# Altium footprint library PcbLib1.PcbLib: 98 footprints (part 2 of 7)
Each footprint in its own frame and in the unit in brackets; x right, y up, seen from the top. Pads: shape width x height; smd on the part's side, far side on the other; paste and mask are expansions set on the pad; w line width, h text height; cw(c..) or ccw(c..) is an arc to the next point about the centre after c.
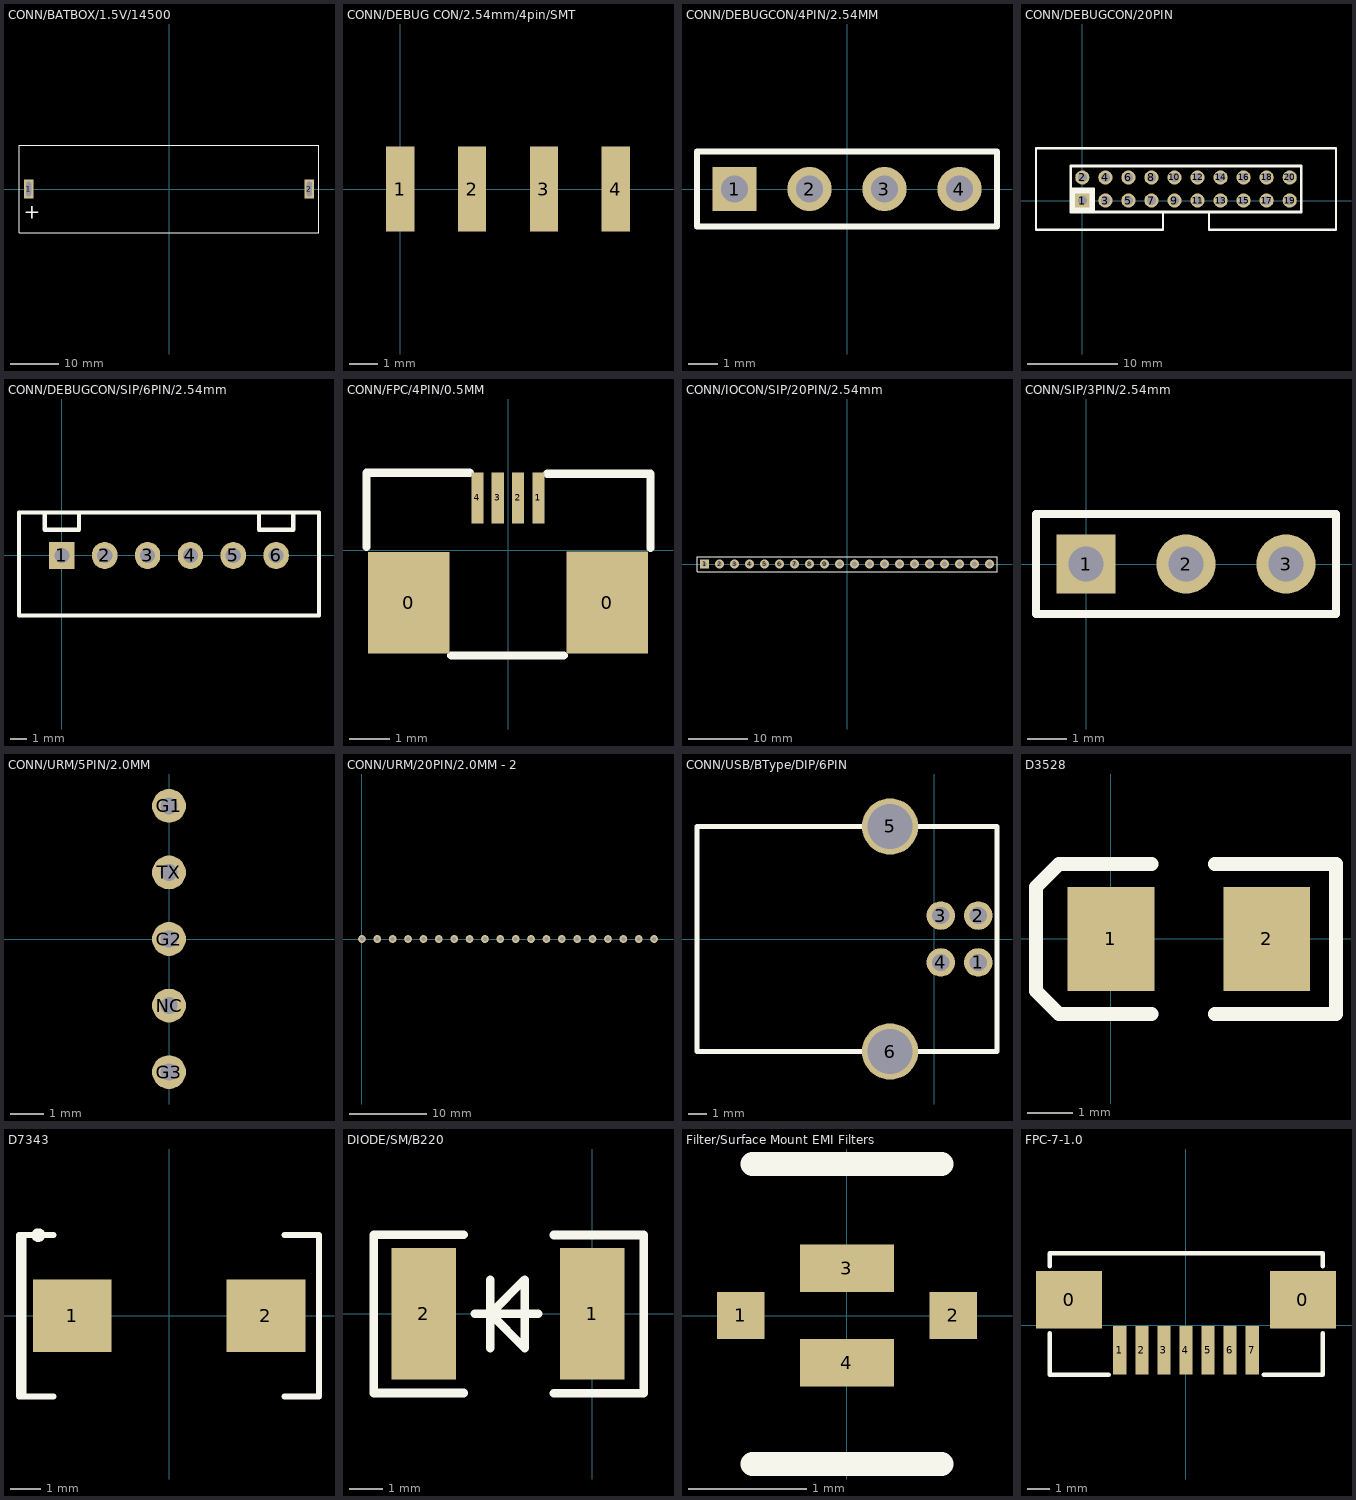
[diagram p1: the footprints below, top view; thin cyan lines are the x and y axes]

## CONN/BATBOX/1.5V/14500 [mm]
pads (2):
  rect 2x4 hole 1 slot 3 at 90 deg: 1(-29,0) 2(29,0)
Top Overlay:
  lines w0.254: -31,-9 -31,0 -31,9 31,9 31,-9 -31,-9
  text "+" at -29.991,-6.121 h3

## CONN/DEBUG CON/2.54mm/4pin/SMT [mm]
pads (4):
  rect 1x3 smd paste+0 mask+0.1: 1(0,0) 2(2.54,0) 3(5.08,0) 4(7.62,0)

## CONN/DEBUGCON/4PIN/2.54MM [mm]
pads (4):
  rect 1.5x1.5 hole 0.9: 1(-3.81,0)
  round 1.5 hole 0.9: 2(-1.27,0) 3(1.27,0) 4(3.81,0)
Top Overlay:
  lines w0.2: -5.08,-1.27 5.08,-1.27 5.08,1.27 -5.08,1.27 -5.08,-1.27

## CONN/DEBUGCON/20PIN [mil]
pads (20):
  rect 62x62 hole 39.37: 1(0,0)
  round 62 hole 39.37: 2(0,100) 3(100,0) 4(100,100) 5(200,0) 6(200,100) 7(300,0) 8(300,100) 9(400,0) 10(400,100) 11(500,0) 12(500,100) 13(600,0) 14(600,100) 15(700,0) 16(700,100) 17(800,0) 18(800,100) 19(900,0) 20(900,100)
Top Overlay:
  rectangle: -50,-50 49,52
  lines w10: 350,-50 350,-127.17 -201.18,-127.17 -201.18,227.16 1101.18,227.16 1101.18,-127.17 550,-127.17 550,-50
  lines w12: -50,50 50,50 50,-50 ; -50,-50 950,-50 950,150 -50,150 -50,-50
3D body: height 352.36, standoff -114.17, extent -201,-123.27 1099,235

## CONN/DEBUGCON/SIP/6PIN/2.54mm [mm]
pads (6):
  rect 1.5x1.6 hole 0.9: 1(0,0)
  oval 1.5x1.6 hole 0.9: 2(2.54,0) 3(5.08,0) 4(7.62,0) 5(10.16,0) 6(12.7,0)
Top Overlay:
  lines w0.254: -1.016,2.54 -1.016,1.524 1.016,1.524 1.016,2.54 ; 11.684,2.54 11.684,1.524 13.716,1.524 13.716,2.54 ; -2.54,-3.556 -2.54,2.54 15.24,2.54 15.24,-3.556 -2.54,-3.556
3D body: height 7.51, standoff -2.49, extent -2.562,-3.562 12.518,2.438

## CONN/FPC/4PIN/0.5MM [mm]
pads (6):
  rect 2x2.5 smd paste+0 mask+0.1: 0(-2.439,-1.288) 0(2.439,-1.287)
  rect 0.3x1.25 smd paste+0 mask+0.04: 1(0.749,1.288) 2(0.249,1.288) 3(-0.251,1.288) 4(-0.751,1.288)
Top Overlay:
  lines w0.2: -3.48,0.076 -3.48,1.905 ; -3.454,1.905 -0.94,1.905 ; -1.397,-2.591 1.372,-2.591 ; 0.965,1.88 3.48,1.88 ; 3.505,0.051 3.505,1.88

## CONN/IOCON/SIP/20PIN/2.54mm [mm]
pads (20):
  rect 1.5x1.5 hole 0.9: 1(-24.13,0)
  round 1.5 hole 0.9: 2(-21.59,0) 3(-19.05,0) 4(-16.51,0) 5(-13.97,0) 6(-11.43,0) 7(-8.89,0) 8(-6.35,0) 9(-3.81,0) 10(-1.27,0) 11(1.27,0) 12(3.81,0) 13(6.35,0) 14(8.89,0) 15(11.43,0) 16(13.97,0) 17(16.51,0) 18(19.05,0) 19(21.59,0) 20(24.13,0)
Top Overlay:
  lines w0.2: -25.4,-1.27 -25.4,1.27 -23.495,1.27 25.4,1.27 25.4,-1.27 -25.4,-1.27
3D body: height 8.54, standoff -3, extent 12.7,-1.27 25.4,1.27
3D body: height 8.54, standoff -3, extent 0,-1.27 12.7,1.27
3D body: height 8.54, standoff -3, extent -12.7,-1.27 0,1.27
3D body: height 8.54, standoff -3, extent -25.4,-1.27 -12.7,1.27

## CONN/SIP/3PIN/2.54mm [mm]
pads (3):
  rect 1.5x1.5 hole 0.9: 1(0,0)
  round 1.5 hole 0.9: 2(2.54,0) 3(5.08,0)
Top Overlay:
  lines w0.2: -1.27,-1.27 -1.27,1.27 6.35,1.27 6.35,-1.27 -1.27,-1.27
3D body: height 8.54, standoff -3, extent -1.27,-1.27 6.35,1.27

## CONN/URM/5PIN/2.0MM [mil]
pads (5):
  round 40 hole 20 mask+2.5: G1(0,157.48) G2(0,0) G3(0,-157.48) NC(0,-78.74) TX(0,78.74)

## CONN/URM/20PIN/2.0MM - 2 [mil]
pads (20):
  round 40 hole 20 mask+2.5: 21(0,0) 22(78.74,0) 23(157.48,0) 24(236.22,0) 25(314.96,0) 26(393.7,0) 27(472.44,0) 28(551.18,0) 29(629.92,0) 30(708.66,0) 31(787.4,0) 32(866.14,0) 33(944.88,0) 34(1023.62,0) 35(1102.36,0) 36(1181.1,0) 37(1259.84,0) 38(1338.58,0) 39(1417.32,0) 40(1496.06,0)

## CONN/USB/BType/DIP/6PIN [mm]
pads (6):
  round 1.524 hole 0.92: 1(2.35,-1.25) 2(2.35,1.25) 3(0.35,1.25) 4(0.35,-1.25)
  round 3 hole 2.4: 5(-2.35,6) 6(-2.35,-6)
Top Overlay:
  lines w0.254: -12.65,-6 -12.65,6 3.35,6 3.35,-6 -12.65,-6
3D body: height 3.13, standoff -11.09, extent -13.036,-7.384 3.264,7.475

## D3528 [mil]
pads (2):
  rect 75x90 smd: 1(0,0) 2(135,0)
Top Overlay:
  lines w12: 35,-65 -45,-65 -65,-45 -65,45 -45,65 35,65 ; 90,-65 195,-65 195,65 90,65
3D body: height 74.8, standoff 0, extent 1,-55 138.8,55.24

## D7343 [mm]
pads (2):
  rect 2.6x2.4 smd: 1(-3.2,0) 2(3.2,0)
Top Overlay:
  circle w0.2: c-4.316,2.667 r0.125
  rectangle: -4.955,-2.666 -4.701,2.668
  lines w0.2: -3.81,-2.667 -4.953,-2.667 -4.953,2.667 -3.81,2.667 ; 3.81,-2.667 4.953,-2.667 4.953,2.667 3.81,2.667
3D body: height 2.9, standoff 0, extent -3.65,-2.15 3.65,2.15

## DIODE/SM/B220 [mm]
pads (2):
  rect 1.9x3.9 smd: 1(0,0) 2(-5,0)
Top Overlay:
  lines w0.254: -3.81,-2.349 -6.477,-2.349 -6.477,2.349 -3.81,2.349 ; -3.48,0 -1.6,0 ; -3.023,-1.016 -3.023,0 ; -3.023,1.016 -3.023,0 ; -1.143,-2.362 1.524,-2.362 1.524,2.337 -1.143,2.337 ; -3.023,0 -2.007,1.016 -2.007,-1.016 -3.023,0

## Filter/Surface Mount EMI Filters [mm]
pads (4):
  rect 0.4x0.4 smd paste+0 mask+0.1: 1(-0.9,0) 2(0.9,0)
  rect 0.8x0.4 smd paste+0 mask+0.065: 3(0,0.4) 4(0,-0.4)
Top Overlay:
  lines w0.2: -0.8,-1.257 0.8,-1.257 ; -0.8,1.283 0.8,1.283

## FPC-7-1.0 [mm]
pads (9):
  rect 3x2.6 smd: 0(-5.3,1.15) 0(5.3,1.15)
  rect 0.6x2.2 smd: 1(-3,-1.15) 2(-2,-1.15) 3(-1,-1.15) 4(0,-1.15) 5(1,-1.15) 6(2,-1.15) 7(3,-1.15)
Top Overlay:
  lines w0.203: -6.175,-0.363 -6.175,-2.242 -3.508,-2.242 ; -6.175,2.66 -6.175,3.258 6.195,3.258 6.195,2.66 ; 3.528,-2.242 6.195,-2.242 6.195,-0.363
3D body: height 3, standoff 0, extent -7.028,-1.855 6.972,6.845